# EAGLE library part 618015231221 (library Connector_D-Sub)
D-SUB, 15POS, PLUG, R/A SLDR Datasheet <https://www.we-online.com/catalog/datasheet/618015231221.pdf>
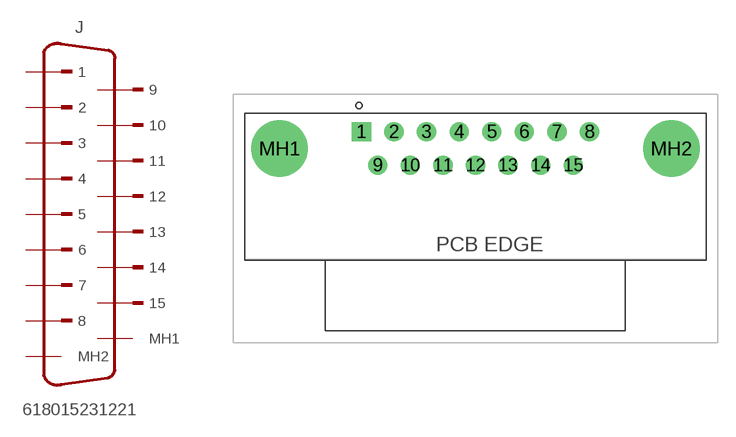
[diagram p1: symbol with the pads of 618015231221; footprint 618015231221]

Designator prefix J

## 618015231221 (CATEGORY: Connector; GENDER: Male; MANUFACTURER: Wurth Electronics; MPN: 618015231221; OPRATING_TEMPERATURE: -40 C to 85 C; PART_STATUS: ACTIVE; ROHS_COMPLIANT: COMPLIANT; SUB_CATEGORY: D-SUB; TYPE: R/A; VALUE: D-SUB-PLUG-15P)  [618015231221]
1  1  pas
2  2  pas
3  3  pas
4  4  pas
5  5  pas
6  6  pas
7  7  pas
8  8  pas
9  9  pas
10  10  pas
11  11  pas
12  12  pas
13  13  pas
14  14  pas
15  15  pas
MH1  MH2  sup
MH2  MH1  sup

## Footprint 618015231221 (pad centres in mm)
618015231221
drill 1.09 square: 1 0,0
drill 1.09: 2 2.77,0; 3 5.54,0; 4 8.31,0; 5 11.08,0; 6 13.85,0; 7 16.62,0; 8 19.39,0; 9 1.385,-2.84; 10 4.155,-2.84; 11 6.925,-2.84; 12 9.695,-2.84; 13 12.465,-2.84; 14 15.235,-2.84; 15 18.005,-2.84
drill 3.2 pad 4.8: MH1 -6.955,-1.42; MH2 26.345,-1.42